# Altium integrated library TI Power Management Step-Up Regulator.IntLib: 226 symbols (part 6 of 11)
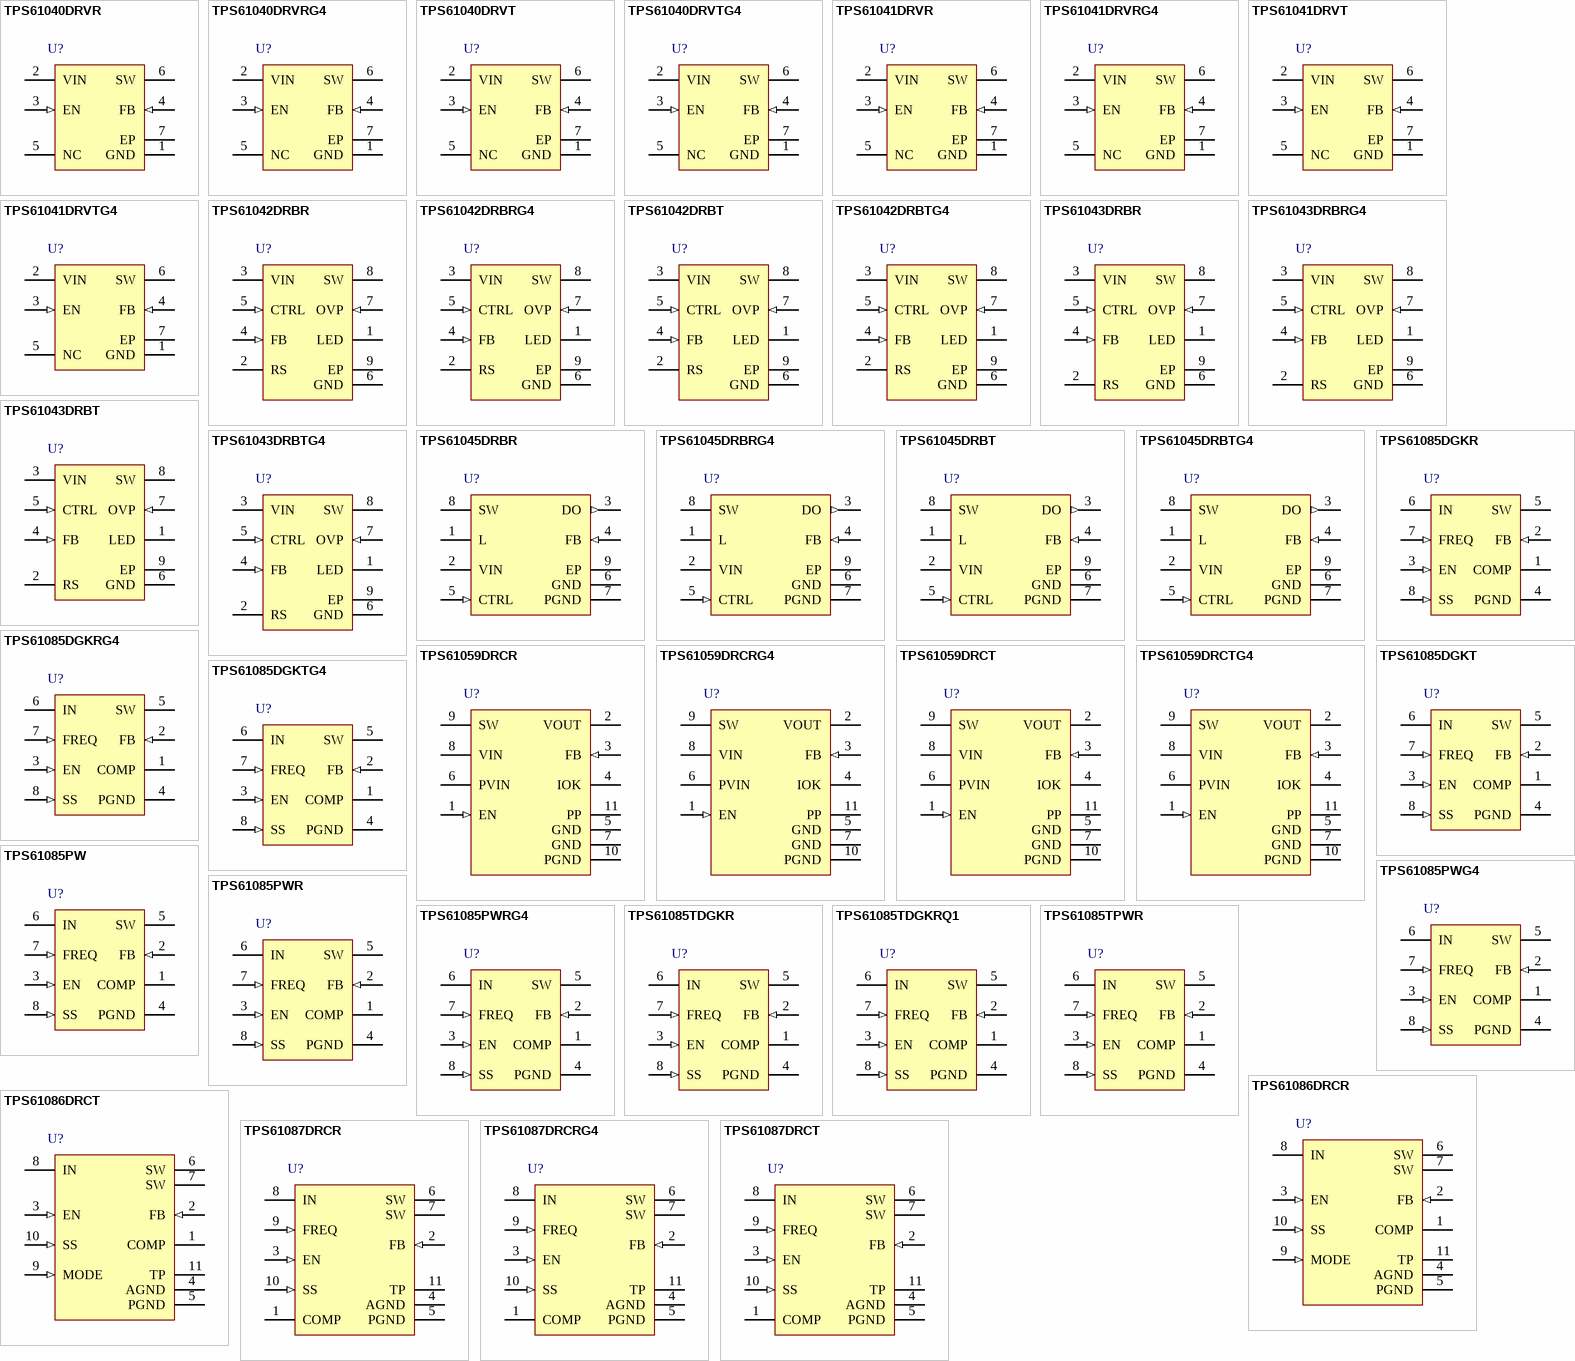
[diagram p11: symbols TPS61040DRVR to TPS61087DRCT]

## TPS61085TDGKR
designator U?
Voltage Converter with 2.3 to 6 V Input and 2.8 to 18.5 V Output, -40 to 105 degC, 8-Pin VSSOP (DGK), Green (RoHS & no Sb/Br); Manufacturer: Texas Instruments; PartNumber: TPS61085TDGKR; Regulated Outputs(#): 1; SubFamily: Step-Up Regulator; Switching Frequency(Typ)(kHz): 650; Vin(Max)(V): 6; Vin(Min)(V): 2.3; Vout(Max)(V): 18.5; Vout(Min)(V): 2.8; DatasheetVersion: SLVSA41A; PackageVersion: revE, May-2006; PackageReference: DGK8; PackageDescription: 8-Pin Thin Small Outline Package 3 x 3 mm Body ,0.65 mm Pitch; Supplier 1: Digi-Key; Supplier Part Number 1: TPS61085TDGKR-ND; Supplier 2: Newark; Supplier Part Number 2: 64R0759; Supplier 3: Mouser; Supplier Part Number 3: 595-TPS61085TDGKR; Eco-Plan: Green (RoHS & no Sb/Br); Mounting Technology: Surface Mount; Code_JEDEC: MO-187-AA; ComponentLink1Description: Datasheet; ComponentLink1URL: http://www.ti.com/general/docs/lit/getliterature.tsp?genericPartNumber=TPS61085T&fileType=pdf; ComponentLink2Description: Package Specification; ComponentLink2URL: http://www.ti.com/lit/ml/mpds028d/mpds028d.pdf
footprint DGK8_N (TSOP, 8-Leads, Body 3x3mm, Pitch 0.65mm, IPC Medium Density)
footprint DGK8_L (TSOP, 8-Leads, Body 3x3mm, Pitch 0.65mm, IPC High Density)
footprint DGK8_M (TSOP, 8-Leads, Body 3x3mm, Pitch 0.65mm, IPC Low Density)
pins: 1 COMP "Compensation pin", 2 FB (in) "Feedback pin", 3 EN (in) "Shutdown control input. Connect this pin to logic high level to enable the device", 4 PGND (power) "Power ground", 5 SW (power) "Switch pin", 6 IN (power) "Input supply pin", 7 FREQ (in) "Frequency select pin. The power switch operates at 650 kHz if FREQ is connected to GND and at 1.2 MHz if FREQ is connected to IN", 8 SS (in) "Soft-start control pin. Connect a capacitor to this pin if soft-start needed. Open = no soft-start"

## TPS61085TDGKRQ1
designator U?
Boost Voltage Converter with 2.3 to 6 V Input and 2.8 to 18.5 V Output, -40 to 105 degC, 8-Pin VSSOP (DGK), Green (RoHS & no Sb/Br); Manufacturer: Texas Instruments; PartNumber: TPS61085TDGKRQ1; Regulated Outputs(#): 1; SubFamily: Step-Up Regulator; Switching Frequency(Max)(kHz): 1500; Vin(Max)(V): 6; Vin(Min)(V): 2.3; Vout(Max)(V): 18.5; Vout(Min)(V): 2.8; DatasheetVersion: SLVSAI9; PackageVersion: revE, May-2006; PackageReference: DGK8; PackageDescription: 8-Pin Thin Small Outline Package 3 x 3 mm Body ,0.65 mm Pitch; Supplier 1: Digi-Key; Supplier Part Number 1: TPS61085TDGKRQ1-ND; Supplier 2: Newark; Supplier Part Number 2: 13T5952; Supplier 3: Mouser; Supplier Part Number 3: 595-TPS61085TDGKRQ1; Eco-Plan: Green (RoHS & no Sb/Br); Topology: Boost; Mounting Technology: Surface Mount; Code_JEDEC: MO-187-AA; ComponentLink1Description: Datasheet; ComponentLink1URL: http://www.ti.com/general/docs/lit/getliterature.tsp?genericPartNumber=TPS61085-Q1&fileType=pdf; ComponentLink2Description: Package Specification; ComponentLink2URL: http://www.ti.com/lit/ml/mpds028d/mpds028d.pdf
footprint DGK8_N (TSOP, 8-Leads, Body 3x3mm, Pitch 0.65mm, IPC Medium Density)
footprint DGK8_L (TSOP, 8-Leads, Body 3x3mm, Pitch 0.65mm, IPC High Density)
footprint DGK8_M (TSOP, 8-Leads, Body 3x3mm, Pitch 0.65mm, IPC Low Density)
pins: 1 COMP "Compensation pin", 2 FB (in) "Feedback pin", 3 EN (in) "Shutdown control input. Connect this pin to logic high level to enable the device", 4 PGND (power) "Power ground", 5 SW (power) "Switch pin", 6 IN (power) "Input supply pin", 7 FREQ (in) "Frequency select pin. The power switch operates at 650 kHz if FREQ is connected to GND and at 1.2 MHz if FREQ is connected to IN", 8 SS (in) "Soft-start control pin. Connect a capacitor to this pin if soft-start needed. Open = no soft-start"

## TPS61085TPWR
designator U?
Voltage Converter with 2.3 to 6 V Input and 2.8 to 18.5 V Output, -40 to 105 degC, 8-Pin TSSOP (PW), Green (RoHS & no Sb/Br); Manufacturer: Texas Instruments; PartNumber: TPS61085TPWR; Regulated Outputs(#): 1; SubFamily: Step-Up Regulator; Switching Frequency(Typ)(kHz): 650; Vin(Max)(V): 6; Vin(Min)(V): 2.3; Vout(Max)(V): 18.5; Vout(Min)(V): 2.8; DatasheetVersion: SLVSA41A; PackageVersion: revG, Feb-2011; PackageReference: PW8; PackageDescription: 8-Pin Plastic Thin Small Outline Package 3 x 4.4 mm Body ,0.65 mm Pitch; Supplier 1: Digi-Key; Supplier Part Number 1: 296-25728-2-ND; Supplier 2: Digi-Key; Supplier Part Number 2: 296-25728-1-ND; Supplier 3: Digi-Key; Supplier Part Number 3: 296-25728-6-ND; Supplier 4: Newark; Supplier Part Number 4: 64R0760; Supplier 5: Mouser; Supplier Part Number 5: 595-TPS61085TPWR; Eco-Plan: Green (RoHS & no Sb/Br); Mounting Technology: Surface Mount; Code_JEDEC: MO-153; ComponentLink1Description: Datasheet; ComponentLink1URL: http://www.ti.com/general/docs/lit/getliterature.tsp?genericPartNumber=TPS61085T&fileType=pdf; ComponentLink2Description: Package Specification; ComponentLink2URL: http://www.ti.com/litv/pdf/mtss001d
footprint PW8_N (TSOP, 8-Leads, Body 3x4.4mm, Pitch 0.65mm, IPC Medium Density)
footprint PW8_L (TSOP, 8-Leads, Body 3x4.4mm, Pitch 0.65mm, IPC High Density)
footprint PW8_M (TSOP, 8-Leads, Body 3x4.4mm, Pitch 0.65mm, IPC Low Density)
pins: 1 COMP "Compensation pin", 2 FB (in) "Feedback pin", 3 EN (in) "Shutdown control input. Connect this pin to logic high level to enable the device", 4 PGND (power) "Power ground", 5 SW (power) "Switch pin", 6 IN (power) "Input supply pin", 7 FREQ (in) "Frequency select pin. The power switch operates at 650 kHz if FREQ is connected to GND and at 1.2 MHz if FREQ is connected to IN", 8 SS (in) "Soft-start control pin. Connect a capacitor to this pin if soft-start needed. Open = no soft-start"

## TPS61086DRCR
designator U?
Boost Voltage Converter with 2.3 to 6 V Input and 2.8 to 18.5 V Output, -40 to 85 degC, 10-Pin SON (DRC), Green (RoHS & no Sb/Br); Manufacturer: Texas Instruments; PartNumber: TPS61086DRCR; Regulated Outputs(#): 1; SubFamily: Step-Up Regulator; Switching Frequency(Typ)(kHz): 1200; Vin(Max)(V): 6; Vin(Min)(V): 2.3; Vout(Max)(V): 18.5; Vout(Min)(V): 2.8; DatasheetVersion: SLVSA05; PackageVersion: revL, Sep-2011; PackageReference: DRC10-2400X1650TP; PackageDescription: 10-Pin Plastic Small Outline No-Lead, 3 x 3 x 1 mm Body, 0.5 mm Pitch, Exposed Pad; Supplier 1: Digi-Key; Supplier Part Number 1: TPS61086DRCR-ND; Supplier 2: Mouser; Supplier Part Number 2: 595-TPS61086DRCR; Eco-Plan: Green (RoHS & no Sb/Br); Topology: Boost; Mounting Technology: Surface Mount; ComponentLink1Description: Datasheet; ComponentLink1URL: http://www.ti.com/general/docs/lit/getliterature.tsp?genericPartNumber=TPS61086&fileType=pdf; ComponentLink2Description: Package Specification; ComponentLink2URL: http://www.ti.com/litv/pdf/mpds117k
footprint DRC10-2400X1650TP (SON, 10-Leads, Body 3x3mm, Pitch 0.5mm, Thermal Pad 2.4x1.65mm, TI Recommended)
pins: 1 COMP "Compensation pin", 2 FB (in) "Feedback pin", 3 EN (in) "Shutdown control input. Connect this pin to logic high level to enable the device", 4 AGND (power) "Analog ground", 5 PGND (power) "Power ground", 6 SW (power) "Switch pin", 7 SW (power) "Switch pin", 8 IN (power) "Input supply pin", 9 MODE (in) "Operating mode selection pin. MODE = 'high' for forced PWM operation. MODE = 'low' for PFM operation", 10 SS (in) "Soft-start control pin. Connect a capacitor to this pin if soft-start needed. Open = no soft-start", 11 TP (power) "Analog ground"

## TPS61086DRCT
designator U?
Boost Voltage Converter with 2.3 to 6 V Input and 2.8 to 18.5 V Output, -40 to 85 degC, 10-Pin SON (DRC), Green (RoHS & no Sb/Br); Manufacturer: Texas Instruments; PartNumber: TPS61086DRCT; Regulated Outputs(#): 1; SubFamily: Step-Up Regulator; Switching Frequency(Typ)(kHz): 1200; Vin(Max)(V): 6; Vin(Min)(V): 2.3; Vout(Max)(V): 18.5; Vout(Min)(V): 2.8; DatasheetVersion: SLVSA05; PackageVersion: revL, Sep-2011; PackageReference: DRC10-2400X1650TP; PackageDescription: 10-Pin Plastic Small Outline No-Lead, 3 x 3 x 1 mm Body, 0.5 mm Pitch, Exposed Pad; Supplier 1: Digi-Key; Supplier Part Number 1: 296-25123-2-ND; Supplier 2: Digi-Key; Supplier Part Number 2: 296-25123-1-ND; Supplier 3: Digi-Key; Supplier Part Number 3: 296-25123-6-ND; Supplier 4: Farnell; Supplier Part Number 4: 1762992; Supplier 5: Newark; Supplier Part Number 5: 26R5220; Supplier 6: Mouser; Supplier Part Number 6: 595-TPS61086DRCT; Eco-Plan: Green (RoHS & no Sb/Br); Topology: Boost; Mounting Technology: Surface Mount; ComponentLink1Description: Datasheet; ComponentLink1URL: http://www.ti.com/general/docs/lit/getliterature.tsp?genericPartNumber=TPS61086&fileType=pdf; ComponentLink2Description: Package Specification; ComponentLink2URL: http://www.ti.com/litv/pdf/mpds117k
footprint DRC10-2400X1650TP (SON, 10-Leads, Body 3x3mm, Pitch 0.5mm, Thermal Pad 2.4x1.65mm, TI Recommended)
pins: 1 COMP "Compensation pin", 2 FB (in) "Feedback pin", 3 EN (in) "Shutdown control input. Connect this pin to logic high level to enable the device", 4 AGND (power) "Analog ground", 5 PGND (power) "Power ground", 6 SW (power) "Switch pin", 7 SW (power) "Switch pin", 8 IN (power) "Input supply pin", 9 MODE (in) "Operating mode selection pin. MODE = 'high' for forced PWM operation. MODE = 'low' for PFM operation", 10 SS (in) "Soft-start control pin. Connect a capacitor to this pin if soft-start needed. Open = no soft-start", 11 TP (power) "Analog ground"

## TPS61087DRCR
designator U?
Boost Voltage Converter with 2.5 to 6 V Input and 3 to 18.5 V Output, -40 to 85 degC, 10-Pin SON (DRC), Green (RoHS & no Sb/Br); Manufacturer: Texas Instruments; PartNumber: TPS61087DRCR; Regulated Outputs(#): 1; SubFamily: Step-Up Regulator; Switching Frequency(Typ)(kHz): 650, 1200; Vin(Max)(V): 6; Vin(Min)(V): 2.5; Vout(Max)(V): 18.5; Vout(Min)(V): 3; DatasheetVersion: SLVS821B; PackageVersion: revL, Sep-2011; PackageReference: DRC10-2400X1650TP; PackageDescription: 10-Pin Plastic Small Outline No-Lead, 3 x 3 x 1 mm Body, 0.5 mm Pitch, Exposed Pad; Supplier 1: Digi-Key; Supplier Part Number 1: 296-27012-2-ND; Supplier 2: Digi-Key; Supplier Part Number 2: 296-27012-1-ND; Supplier 3: Digi-Key; Supplier Part Number 3: 296-27012-6-ND; Supplier 4: Newark; Supplier Part Number 4: 11N9843; Supplier 5: Mouser; Supplier Part Number 5: 595-TPS61087DRCR; Eco-Plan: Green (RoHS & no Sb/Br); Topology: Boost; Mounting Technology: Surface Mount; ComponentLink1Description: Datasheet; ComponentLink1URL: http://www.ti.com/general/docs/lit/getliterature.tsp?genericPartNumber=TPS61087&fileType=pdf; ComponentLink2Description: Package Specification; ComponentLink2URL: http://www.ti.com/litv/pdf/mpds117k
footprint DRC10-2400X1650TP (SON, 10-Leads, Body 3x3mm, Pitch 0.5mm, Thermal Pad 2.4x1.65mm, TI Recommended)
pins: 1 COMP "Compensation pin", 2 FB (in) "Feedback pin", 3 EN (in) "Shutdown control input. Connect this pin to logic high level to enable the device", 4 AGND (power) "Analog ground", 5 PGND (power) "Power ground", 6 SW (power) "Switch pin", 7 SW (power) "Switch pin", 8 IN (power) "Input supply pin", 9 FREQ (in) "Frequency select pin. The power switch operates at 650 kHz if FREQ is connected to GND and at 1.2 MHz if FREQ is connected to IN", 10 SS (in) "Soft-start control pin. Connect a capacitor to this pin if soft-start needed. Open = no soft-start", 11 TP (power) "Analog ground"

## TPS61087DRCRG4
designator U?
Boost Voltage Converter with 2.5 to 6 V Input and 3 to 18.5 V Output, -40 to 85 degC, 10-Pin SON (DRC), Green (RoHS & no Sb/Br); Manufacturer: Texas Instruments; PartNumber: TPS61087DRCRG4; Regulated Outputs(#): 1; SubFamily: Step-Up Regulator; Switching Frequency(Typ)(kHz): 650, 1200; Vin(Max)(V): 6; Vin(Min)(V): 2.5; Vout(Max)(V): 18.5; Vout(Min)(V): 3; DatasheetVersion: SLVS821B; PackageVersion: revL, Sep-2011; PackageReference: DRC10-2400X1650TP; PackageDescription: 10-Pin Plastic Small Outline No-Lead, 3 x 3 x 1 mm Body, 0.5 mm Pitch, Exposed Pad; Supplier 1: Digi-Key; Supplier Part Number 1: TPS61087DRCRG4-ND; Supplier 2: Newark; Supplier Part Number 2: 03P5225; Supplier 3: Mouser; Supplier Part Number 3: 595-TPS61087DRCRG4; Eco-Plan: Green (RoHS & no Sb/Br); Topology: Boost; Mounting Technology: Surface Mount; ComponentLink1Description: Datasheet; ComponentLink1URL: http://www.ti.com/general/docs/lit/getliterature.tsp?genericPartNumber=TPS61087&fileType=pdf; ComponentLink2Description: Package Specification; ComponentLink2URL: http://www.ti.com/litv/pdf/mpds117k
footprint DRC10-2400X1650TP (SON, 10-Leads, Body 3x3mm, Pitch 0.5mm, Thermal Pad 2.4x1.65mm, TI Recommended)
pins: 1 COMP "Compensation pin", 2 FB (in) "Feedback pin", 3 EN (in) "Shutdown control input. Connect this pin to logic high level to enable the device", 4 AGND (power) "Analog ground", 5 PGND (power) "Power ground", 6 SW (power) "Switch pin", 7 SW (power) "Switch pin", 8 IN (power) "Input supply pin", 9 FREQ (in) "Frequency select pin. The power switch operates at 650 kHz if FREQ is connected to GND and at 1.2 MHz if FREQ is connected to IN", 10 SS (in) "Soft-start control pin. Connect a capacitor to this pin if soft-start needed. Open = no soft-start", 11 TP (power) "Analog ground"

## TPS61087DRCT
designator U?
Boost Voltage Converter with 2.5 to 6 V Input and 3 to 18.5 V Output, -40 to 85 degC, 10-Pin SON (DRC), Green (RoHS & no Sb/Br); Manufacturer: Texas Instruments; PartNumber: TPS61087DRCT; Regulated Outputs(#): 1; SubFamily: Step-Up Regulator; Switching Frequency(Typ)(kHz): 650, 1200; Vin(Max)(V): 6; Vin(Min)(V): 2.5; Vout(Max)(V): 18.5; Vout(Min)(V): 3; DatasheetVersion: SLVS821B; PackageVersion: revL, Sep-2011; PackageReference: DRC10-2400X1650TP; PackageDescription: 10-Pin Plastic Small Outline No-Lead, 3 x 3 x 1 mm Body, 0.5 mm Pitch, Exposed Pad; Supplier 1: Digi-Key; Supplier Part Number 1: 296-23426-2-ND; Supplier 2: Digi-Key; Supplier Part Number 2: 296-23426-1-ND; Supplier 3: Digi-Key; Supplier Part Number 3: 296-23426-6-ND; Supplier 4: Farnell; Supplier Part Number 4: 1647915; Supplier 5: Newark; Supplier Part Number 5: 33P8376; Supplier 6: Newark; Supplier Part Number 6: 11N9844; Supplier 7: Mouser; Supplier Part Number 7: 595-TPS61087DRCT; Eco-Plan: Green (RoHS & no Sb/Br); Topology: Boost; Mounting Technology: Surface Mount; ComponentLink1Description: Datasheet; ComponentLink1URL: http://www.ti.com/general/docs/lit/getliterature.tsp?genericPartNumber=TPS61087&fileType=pdf; ComponentLink2Description: Package Specification; ComponentLink2URL: http://www.ti.com/litv/pdf/mpds117k
footprint DRC10-2400X1650TP (SON, 10-Leads, Body 3x3mm, Pitch 0.5mm, Thermal Pad 2.4x1.65mm, TI Recommended)
pins: 1 COMP "Compensation pin", 2 FB (in) "Feedback pin", 3 EN (in) "Shutdown control input. Connect this pin to logic high level to enable the device", 4 AGND (power) "Analog ground", 5 PGND (power) "Power ground", 6 SW (power) "Switch pin", 7 SW (power) "Switch pin", 8 IN (power) "Input supply pin", 9 FREQ (in) "Frequency select pin. The power switch operates at 650 kHz if FREQ is connected to GND and at 1.2 MHz if FREQ is connected to IN", 10 SS (in) "Soft-start control pin. Connect a capacitor to this pin if soft-start needed. Open = no soft-start", 11 TP (power) "Analog ground"

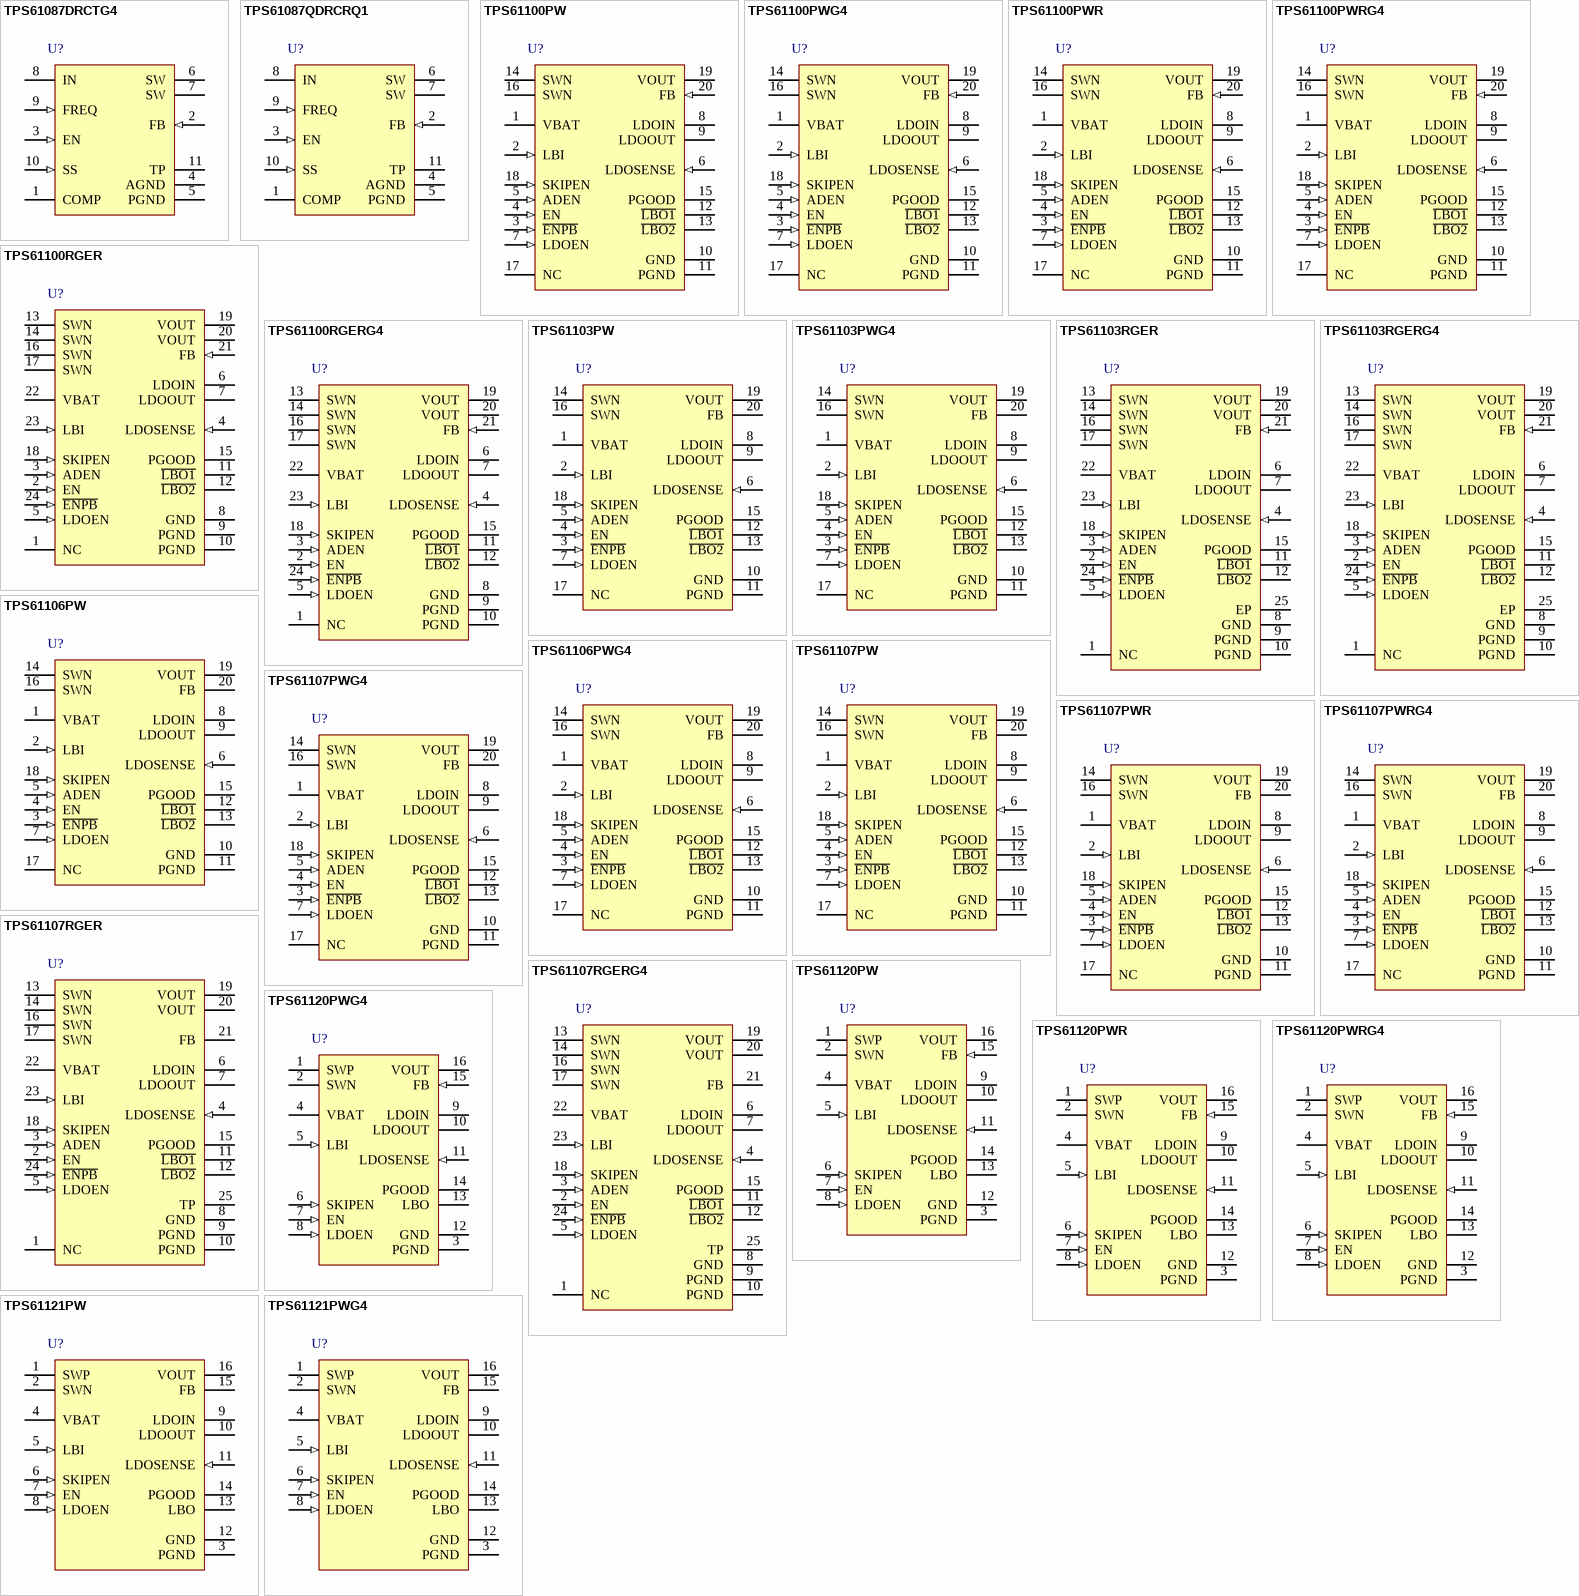
[diagram p3: symbols TPS61087DRCTG4 to TPS61121PWG4]

## TPS61087DRCTG4
designator U?
Boost Voltage Converter with 2.5 to 6 V Input and 3 to 18.5 V Output, -40 to 85 degC, 10-Pin SON (DRC), Green (RoHS & no Sb/Br); Manufacturer: Texas Instruments; PartNumber: TPS61087DRCTG4; Regulated Outputs(#): 1; SubFamily: Step-Up Regulator; Switching Frequency(Typ)(kHz): 650, 1200; Vin(Max)(V): 6; Vin(Min)(V): 2.5; Vout(Max)(V): 18.5; Vout(Min)(V): 3; DatasheetVersion: SLVS821B; PackageVersion: revL, Sep-2011; PackageReference: DRC10-2400X1650TP; PackageDescription: 10-Pin Plastic Small Outline No-Lead, 3 x 3 x 1 mm Body, 0.5 mm Pitch, Exposed Pad; Supplier 1: Digi-Key; Supplier Part Number 1: TPS61087DRCTG4-ND; Supplier 2: Newark; Supplier Part Number 2: 03P5226; Supplier 3: Mouser; Supplier Part Number 3: 595-TPS61087DRCTG4; Eco-Plan: Green (RoHS & no Sb/Br); Topology: Boost; Mounting Technology: Surface Mount; ComponentLink1Description: Datasheet; ComponentLink1URL: http://www.ti.com/general/docs/lit/getliterature.tsp?genericPartNumber=TPS61087&fileType=pdf; ComponentLink2Description: Package Specification; ComponentLink2URL: http://www.ti.com/litv/pdf/mpds117k
footprint DRC10-2400X1650TP (SON, 10-Leads, Body 3x3mm, Pitch 0.5mm, Thermal Pad 2.4x1.65mm, TI Recommended)
pins: 1 COMP "Compensation pin", 2 FB (in) "Feedback pin", 3 EN (in) "Shutdown control input. Connect this pin to logic high level to enable the device", 4 AGND (power) "Analog ground", 5 PGND (power) "Power ground", 6 SW (power) "Switch pin", 7 SW (power) "Switch pin", 8 IN (power) "Input supply pin", 9 FREQ (in) "Frequency select pin. The power switch operates at 650 kHz if FREQ is connected to GND and at 1.2 MHz if FREQ is connected to IN", 10 SS (in) "Soft-start control pin. Connect a capacitor to this pin if soft-start needed. Open = no soft-start", 11 TP (power) "Analog ground"

## TPS61087QDRCRQ1
designator U?
Boost Voltage Converter with 2.5 to 6 V Input and 3 to 18.5 V Output, -40 to 125 degC, 10-Pin SON (DRC), Green (RoHS & no Sb/Br); Manufacturer: Texas Instruments; PartNumber: TPS61087QDRCRQ1; Regulated Outputs(#): 1; SubFamily: Step-Up Regulator; Switching Frequency(Typ)(kHz): 650, 1200; Vin(Max)(V): 6; Vin(Min)(V): 2.5; Vout(Max)(V): 18.5; Vout(Min)(V): 3; DatasheetVersion: SLVSB50; PackageVersion: revL, Sep-2011; PackageReference: DRC10-2400X1650TP; PackageDescription: 10-Pin Plastic Small Outline No-Lead, 3 x 3 x 1 mm Body, 0.5 mm Pitch, Exposed Pad; Supplier 1: Digi-Key; Supplier Part Number 1: TPS61087QDRCRQ1-ND; Supplier 2: Newark; Supplier Part Number 2: 76T8139; Supplier 3: Mouser; Supplier Part Number 3: 595-TPS61087QDRCRQ1; Eco-Plan: Green (RoHS & no Sb/Br); Topology: Boost; Mounting Technology: Surface Mount; ComponentLink1Description: Datasheet; ComponentLink1URL: http://www.ti.com/general/docs/lit/getliterature.tsp?genericPartNumber=TPS61087-Q1&fileType=pdf; ComponentLink2Description: Package Specification; ComponentLink2URL: http://www.ti.com/litv/pdf/mpds117k
footprint DRC10-2400X1650TP (SON, 10-Leads, Body 3x3mm, Pitch 0.5mm, Thermal Pad 2.4x1.65mm, TI Recommended)
pins: 1 COMP "Compensation pin", 2 FB (in) "Feedback pin", 3 EN (in) "Shutdown control input. Connect this pin to logic high level to enable the device", 4 AGND (power) "Analog ground", 5 PGND (power) "Power ground", 6 SW (power) "Switch pin", 7 SW (power) "Switch pin", 8 IN (power) "Input supply pin", 9 FREQ (in) "Frequency select pin. The power switch operates at 650 kHz if FREQ is connected to GND and at 1.2 MHz if FREQ is connected to IN", 10 SS (in) "Soft-start control pin. Connect a capacitor to this pin if soft-start needed. Open = no soft-start", 11 TP (power) "Analog ground"

## TPS61100PW
designator U?
Boost Voltage Converter with 0.8 to 3.3 V Input and 1.5 to 5.5 V Output, -40 to 85 degC, 5-Pin SOT-23 (DBV), Green (RoHS & no Sb/Br); Manufacturer: Texas Instruments; PartNumber: TPS61100PW; Regulated Outputs(#): 2; SubFamily: Step-Up Regulator; Switching Frequency(Max)(kHz): 800; Synchronous Rectification: TRUE; Vin(Max)(V): 3.3; Vin(Min)(V): 0.8; Vout(Max)(V): 5.5; Vout(Min)(V): 1.5; Vout2 Adj(Max)(V): 3.6; Vout2 Adj(Min)(V): 0.9; DatasheetVersion: SLVS411B; PackageVersion: revG, Feb-2011; PackageReference: PW20; PackageDescription: 20-Pin Plastic Thin Small Outline Package 6.5 x 4.4 mm Body ,0.65 mm Pitch; Supplier 1: Digi-Key; Supplier Part Number 1: 296-13515-5-ND; Supplier 2: Newark; Supplier Part Number 2: 77C0675; Supplier 3: Mouser; Supplier Part Number 3: 595-TPS61100PW; Eco-Plan: Green (RoHS & no Sb/Br); Topology: Boost; Mounting Technology: Surface Mount; Code_JEDEC: MO-153; ComponentLink1Description: Datasheet; ComponentLink1URL: http://www.ti.com/general/docs/lit/getliterature.tsp?genericPartNumber=TPS61100&fileType=pdf; ComponentLink2Description: Package Specification; ComponentLink2URL: http://www.ti.com.cn/cn/lit/ml/mpds362/mpds362.pdf
footprint PW20_N (TSOP, 20-Leads, Body 6.5x4.4mm, Pitch 0.65mm, IPC Medium Density)
footprint PW20_L (TSOP, 20-Leads, Body 6.5x4.4mm, Pitch 0.65mm, IPC High Density)
footprint PW20_M (TSOP, 20-Leads, Body 6.5x4.4mm, Pitch 0.65mm, IPC Low Density)
pins: 1 VBAT (power) "Supply pin", 2 LBI (in) "Low battery comparator input (comparator enabled with EN)", 3 ~{ENPB} (in) "Boost-enable input (pushbutton). (0/GND enabled. 1/VBAT disabled)", 4 EN (in) "Boost-enable input. (1/VBAT enabled, 0/GND disabled)", 5 ADEN (in) "Auto discharge enable (1/VBAT enabled, 0/GND disabled)", 6 LDOSENSE (in) "LDO feedback for voltage adjustment, must be connected to LDOOUT at fixed output voltage versions", 7 LDOEN (in) "LDO-enable input (1/VBAT enabled, 0/GND disabled)", 8 LDOIN (power) "LDO input", 9 LDOOUT (power) "LDO output", 10 GND (power) "Control/logic ground", 11 PGND (power) "Power ground", 12 ~{LBO1} (hiz) "Low battery comparator output 1 (open drain)", 13 ~{LBO2} (hiz) "Low battery comparator output 2 (open drain)", 14 SWN (power) "Boost switch input", 15 PGOOD (hiz) "Boost output power good (1 : good, 0 : failure) (open drain)", 16 SWN (power) "Boost switch input", 17 NC "No connection", 18 SKIPEN (in) "Enable/disable Power save mode (1: VBAT enabled, 0: GND disabled)", 19 VOUT (power) "Boost output", 20 FB (in) "Boost-voltage feedback of adjustable versions"

## TPS61100PWG4
designator U?
Boost Voltage Converter with 0.8 to 3.3 V Input and 1.5 to 5.5 V Output, -40 to 85 degC, 20-Pin TSSOP (PW), Green (RoHS & no Sb/Br); Manufacturer: Texas Instruments; PartNumber: TPS61100PWG4; Regulated Outputs(#): 2; SubFamily: Step-Up Regulator; Switching Frequency(Max)(kHz): 800; Synchronous Rectification: TRUE; Vin(Max)(V): 3.3; Vin(Min)(V): 0.8; Vout(Max)(V): 5.5; Vout(Min)(V): 1.5; Vout2 Adj(Max)(V): 3.6; Vout2 Adj(Min)(V): 0.9; DatasheetVersion: SLVS411B; PackageVersion: revG, Feb-2011; PackageReference: PW20; PackageDescription: 20-Pin Plastic Thin Small Outline Package 6.5 x 4.4 mm Body ,0.65 mm Pitch; Supplier 1: Digi-Key; Supplier Part Number 1: TPS61100PWG4-ND; Supplier 2: Farnell; Supplier Part Number 2: 1214436; Supplier 3: Newark; Supplier Part Number 3: 66K4533; Supplier 4: Mouser; Supplier Part Number 4: 595-TPS61100PWG4; Eco-Plan: Green (RoHS & no Sb/Br); Topology: Boost; Mounting Technology: Surface Mount; Code_JEDEC: MO-153; ComponentLink1Description: Datasheet; ComponentLink1URL: http://www.ti.com/general/docs/lit/getliterature.tsp?genericPartNumber=TPS61100&fileType=pdf; ComponentLink2Description: Package Specification; ComponentLink2URL: http://www.ti.com.cn/cn/lit/ml/mpds362/mpds362.pdf
footprint PW20_N (TSOP, 20-Leads, Body 6.5x4.4mm, Pitch 0.65mm, IPC Medium Density)
footprint PW20_L (TSOP, 20-Leads, Body 6.5x4.4mm, Pitch 0.65mm, IPC High Density)
footprint PW20_M (TSOP, 20-Leads, Body 6.5x4.4mm, Pitch 0.65mm, IPC Low Density)
pins: 1 VBAT (power) "Supply pin", 2 LBI (in) "Low battery comparator input (comparator enabled with EN)", 3 ~{ENPB} (in) "Boost-enable input (pushbutton). (0/GND enabled. 1/VBAT disabled)", 4 EN (in) "Boost-enable input. (1/VBAT enabled, 0/GND disabled)", 5 ADEN (in) "Auto discharge enable (1/VBAT enabled, 0/GND disabled)", 6 LDOSENSE (in) "LDO feedback for voltage adjustment, must be connected to LDOOUT at fixed output voltage versions", 7 LDOEN (in) "LDO-enable input (1/VBAT enabled, 0/GND disabled)", 8 LDOIN (power) "LDO input", 9 LDOOUT (power) "LDO output", 10 GND (power) "Control/logic ground", 11 PGND (power) "Power ground", 12 ~{LBO1} (hiz) "Low battery comparator output 1 (open drain)", 13 ~{LBO2} (hiz) "Low battery comparator output 2 (open drain)", 14 SWN (power) "Boost switch input", 15 PGOOD (hiz) "Boost output power good (1 : good, 0 : failure) (open drain)", 16 SWN (power) "Boost switch input", 17 NC "No connection", 18 SKIPEN (in) "Enable/disable Power save mode (1: VBAT enabled, 0: GND disabled)", 19 VOUT (power) "Boost output", 20 FB (in) "Boost-voltage feedback of adjustable versions"

## TPS61100PWR
designator U?
Boost Voltage Converter with 0.8 to 3.3 V Input and 1.5 to 5.5 V Output, -40 to 85 degC, 20-Pin TSSOP (PW), Green (RoHS & no Sb/Br); Manufacturer: Texas Instruments; PartNumber: TPS61100PWR; Regulated Outputs(#): 2; SubFamily: Step-Up Regulator; Switching Frequency(Max)(kHz): 800; Synchronous Rectification: TRUE; Vin(Max)(V): 3.3; Vin(Min)(V): 0.8; Vout(Max)(V): 5.5; Vout(Min)(V): 1.5; Vout2 Adj(Max)(V): 3.6; Vout2 Adj(Min)(V): 0.9; DatasheetVersion: SLVS411B; PackageVersion: revG, Feb-2011; PackageReference: PW20; PackageDescription: 20-Pin Plastic Thin Small Outline Package 6.5 x 4.4 mm Body ,0.65 mm Pitch; Supplier 1: Digi-Key; Supplier Part Number 1: TPS61100PWR-ND; Supplier 2: Newark; Supplier Part Number 2: 77C0676; Supplier 3: Mouser; Supplier Part Number 3: 595-TPS61100PWR; Eco-Plan: Green (RoHS & no Sb/Br); Topology: Boost; Mounting Technology: Surface Mount; Code_JEDEC: MO-153; ComponentLink1Description: Datasheet; ComponentLink1URL: http://www.ti.com/general/docs/lit/getliterature.tsp?genericPartNumber=TPS61100&fileType=pdf; ComponentLink2Description: Package Specification; ComponentLink2URL: http://www.ti.com.cn/cn/lit/ml/mpds362/mpds362.pdf
footprint PW20_N (TSOP, 20-Leads, Body 6.5x4.4mm, Pitch 0.65mm, IPC Medium Density)
footprint PW20_L (TSOP, 20-Leads, Body 6.5x4.4mm, Pitch 0.65mm, IPC High Density)
footprint PW20_M (TSOP, 20-Leads, Body 6.5x4.4mm, Pitch 0.65mm, IPC Low Density)
pins: 1 VBAT (power) "Supply pin", 2 LBI (in) "Low battery comparator input (comparator enabled with EN)", 3 ~{ENPB} (in) "Boost-enable input (pushbutton). (0/GND enabled. 1/VBAT disabled)", 4 EN (in) "Boost-enable input. (1/VBAT enabled, 0/GND disabled)", 5 ADEN (in) "Auto discharge enable (1/VBAT enabled, 0/GND disabled)", 6 LDOSENSE (in) "LDO feedback for voltage adjustment, must be connected to LDOOUT at fixed output voltage versions", 7 LDOEN (in) "LDO-enable input (1/VBAT enabled, 0/GND disabled)", 8 LDOIN (power) "LDO input", 9 LDOOUT (power) "LDO output", 10 GND (power) "Control/logic ground", 11 PGND (power) "Power ground", 12 ~{LBO1} (hiz) "Low battery comparator output 1 (open drain)", 13 ~{LBO2} (hiz) "Low battery comparator output 2 (open drain)", 14 SWN (power) "Boost switch input", 15 PGOOD (hiz) "Boost output power good (1 : good, 0 : failure) (open drain)", 16 SWN (power) "Boost switch input", 17 NC "No connection", 18 SKIPEN (in) "Enable/disable Power save mode (1: VBAT enabled, 0: GND disabled)", 19 VOUT (power) "Boost output", 20 FB (in) "Boost-voltage feedback of adjustable versions"

## TPS61100PWRG4
designator U?
Boost Voltage Converter with 0.8 to 3.3 V Input and 1.5 to 5.5 V Output, -40 to 85 degC, 20-Pin TSSOP (PW), Green (RoHS & no Sb/Br); Manufacturer: Texas Instruments; PartNumber: TPS61100PWRG4; Regulated Outputs(#): 2; SubFamily: Step-Up Regulator; Switching Frequency(Max)(kHz): 800; Synchronous Rectification: TRUE; Vin(Max)(V): 3.3; Vin(Min)(V): 0.8; Vout(Max)(V): 5.5; Vout(Min)(V): 1.5; Vout2 Adj(Max)(V): 3.6; Vout2 Adj(Min)(V): 0.9; DatasheetVersion: SLVS411B; PackageVersion: revG, Feb-2011; PackageReference: PW20; PackageDescription: 20-Pin Plastic Thin Small Outline Package 6.5 x 4.4 mm Body ,0.65 mm Pitch; Supplier 1: Digi-Key; Supplier Part Number 1: TPS61100PWRG4-ND; Supplier 2: Newark; Supplier Part Number 2: 73K9608; Supplier 3: Mouser; Supplier Part Number 3: 595-TPS61100PWRG4; Eco-Plan: Green (RoHS & no Sb/Br); Topology: Boost; Mounting Technology: Surface Mount; Code_JEDEC: MO-153; ComponentLink1Description: Datasheet; ComponentLink1URL: http://www.ti.com/general/docs/lit/getliterature.tsp?genericPartNumber=TPS61100&fileType=pdf; ComponentLink2Description: Package Specification; ComponentLink2URL: http://www.ti.com.cn/cn/lit/ml/mpds362/mpds362.pdf
footprint PW20_N (TSOP, 20-Leads, Body 6.5x4.4mm, Pitch 0.65mm, IPC Medium Density)
footprint PW20_L (TSOP, 20-Leads, Body 6.5x4.4mm, Pitch 0.65mm, IPC High Density)
footprint PW20_M (TSOP, 20-Leads, Body 6.5x4.4mm, Pitch 0.65mm, IPC Low Density)
pins: 1 VBAT (power) "Supply pin", 2 LBI (in) "Low battery comparator input (comparator enabled with EN)", 3 ~{ENPB} (in) "Boost-enable input (pushbutton). (0/GND enabled. 1/VBAT disabled)", 4 EN (in) "Boost-enable input. (1/VBAT enabled, 0/GND disabled)", 5 ADEN (in) "Auto discharge enable (1/VBAT enabled, 0/GND disabled)", 6 LDOSENSE (in) "LDO feedback for voltage adjustment, must be connected to LDOOUT at fixed output voltage versions", 7 LDOEN (in) "LDO-enable input (1/VBAT enabled, 0/GND disabled)", 8 LDOIN (power) "LDO input", 9 LDOOUT (power) "LDO output", 10 GND (power) "Control/logic ground", 11 PGND (power) "Power ground", 12 ~{LBO1} (hiz) "Low battery comparator output 1 (open drain)", 13 ~{LBO2} (hiz) "Low battery comparator output 2 (open drain)", 14 SWN (power) "Boost switch input", 15 PGOOD (hiz) "Boost output power good (1 : good, 0 : failure) (open drain)", 16 SWN (power) "Boost switch input", 17 NC "No connection", 18 SKIPEN (in) "Enable/disable Power save mode (1: VBAT enabled, 0: GND disabled)", 19 VOUT (power) "Boost output", 20 FB (in) "Boost-voltage feedback of adjustable versions"

## TPS61100RGER
designator U?
Boost Voltage Converter with 0.8 to 3.3 V Input and 1.5 to 5.5 V Output, -40 to 85 degC, 24-Pin VQFN (RGE), Green (RoHS & no Sb/Br); Manufacturer: Texas Instruments; PartNumber: TPS61100RGER; Regulated Outputs(#): 2; SubFamily: Step-Up Regulator; Switching Frequency(Max)(kHz): 800; Synchronous Rectification: TRUE; Vin(Max)(V): 3.3; Vin(Min)(V): 0.8; Vout(Max)(V): 5.5; Vout(Min)(V): 1.5; Vout2 Adj(Max)(V): 3.6; Vout2 Adj(Min)(V): 0.9; DatasheetVersion: SLVS411B; PackageVersion: revG, Jul-2011; PackageReference: RGE24-2450X2450TP; PackageDescription: 24-Pin Plastic Quad Flatpack No-Lead, 4 x 4 mm Body, 0.5 mm Pitch; Supplier 1: Digi-Key; Supplier Part Number 1: 296-15141-2-ND; Supplier 2: Digi-Key; Supplier Part Number 2: 296-15141-1-ND; Supplier 3: Digi-Key; Supplier Part Number 3: 296-15141-6-ND; Supplier 4: Farnell; Supplier Part Number 4: 1544025; Supplier 5: Newark; Supplier Part Number 5: 95M0066; Supplier 6: Newark; Supplier Part Number 6: 02E7221; Supplier 7: Mouser; Supplier Part Number 7: 595-TPS61100RGER; Eco-Plan: Green (RoHS & no Sb/Br); Topology: Boost; Mounting Technology: Surface Mount; Code_JEDEC: MO-220; ComponentLink1Description: Datasheet; ComponentLink1URL: http://www.ti.com/general/docs/lit/getliterature.tsp?genericPartNumber=TPS61100&fileType=pdf; ComponentLink2Description: Package Specification; ComponentLink2URL: http://www.ti.com/litv/pdf/mpqf124f
footprint RGE24-2450X2450TP (QFN, 24-Leads, Body 4x4mm, Pitch 0.5mm, Thermal Pad 2.45x2.45mm, TI Recommended)
pins: 1 NC "No connection", 2 EN (in) "Boost-enable input. (1/VBAT enabled, 0/GND disabled)", 3 ADEN (in) "Auto discharge enable (1/VBAT enabled, 0/GND disabled)", 4 LDOSENSE (in) "LDO feedback for voltage adjustment, must be connected to LDOOUT at fixed output voltage versions", 5 LDOEN (in) "LDO-enable input (1/VBAT enabled, 0/GND disabled)", 6 LDOIN (power) "LDO input", 7 LDOOUT (power) "LDO output", 8 GND (power) "Control/logic ground", 9 PGND (power) "Power ground", 10 PGND (power) "Power ground", 11 ~{LBO1} (hiz) "Low battery comparator output 1 (open drain)", 12 ~{LBO2} (hiz) "Low battery comparator output 2 (open drain)", 13 SWN (power) "Boost switch input", 14 SWN (power) "Boost switch input", 15 PGOOD (hiz) "Boost output power good (1 : good, 0 : failure) (open drain)", 16 SWN (power) "Boost switch input", 17 SWN (power) "Boost switch input", 18 SKIPEN (in) "Enable/disable Power save mode (1: VBAT enabled, 0: GND disabled)", 19 VOUT (power) "Boost output", 20 VOUT (power) "Boost output", 21 FB (in) "Boost-voltage feedback of adjustable versions", 22 VBAT (power) "Supply pin", 23 LBI (in) "Low battery comparator input (comparator enabled with EN)", 24 ~{ENPB} (in) "Boost-enable input (pushbutton). (0/GND enabled. 1/VBAT disabled)"

## TPS61100RGERG4
designator U?
Boost Voltage Converter with 0.8 to 3.3 V Input and 1.5 to 5.5 V Output, -40 to 85 degC, 24-Pin VQFN (RGE), Green (RoHS & no Sb/Br); Manufacturer: Texas Instruments; PartNumber: TPS61100RGERG4; Regulated Outputs(#): 2; SubFamily: Step-Up Regulator; Switching Frequency(Max)(kHz): 800; Synchronous Rectification: TRUE; Vin(Max)(V): 3.3; Vin(Min)(V): 0.8; Vout(Max)(V): 5.5; Vout(Min)(V): 1.5; Vout2 Adj(Max)(V): 3.6; Vout2 Adj(Min)(V): 0.9; DatasheetVersion: SLVS411B; PackageVersion: revG, Jul-2011; PackageReference: RGE24-2450X2450TP; PackageDescription: 24-Pin Plastic Quad Flatpack No-Lead, 4 x 4 mm Body, 0.5 mm Pitch; Supplier 1: Digi-Key; Supplier Part Number 1: TPS61100RGERG4-ND; Supplier 2: Newark; Supplier Part Number 2: 54K1718; Supplier 3: Mouser; Supplier Part Number 3: 595-TPS61100RGERG4; Eco-Plan: Green (RoHS & no Sb/Br); Topology: Boost; Mounting Technology: Surface Mount; Code_JEDEC: MO-220; ComponentLink1Description: Datasheet; ComponentLink1URL: http://www.ti.com/general/docs/lit/getliterature.tsp?genericPartNumber=TPS61100&fileType=pdf; ComponentLink2Description: Package Specification; ComponentLink2URL: http://www.ti.com/litv/pdf/mpqf124f
footprint RGE24-2450X2450TP (QFN, 24-Leads, Body 4x4mm, Pitch 0.5mm, Thermal Pad 2.45x2.45mm, TI Recommended)
pins: 1 NC "No connection", 2 EN (in) "Boost-enable input. (1/VBAT enabled, 0/GND disabled)", 3 ADEN (in) "Auto discharge enable (1/VBAT enabled, 0/GND disabled)", 4 LDOSENSE (in) "LDO feedback for voltage adjustment, must be connected to LDOOUT at fixed output voltage versions", 5 LDOEN (in) "LDO-enable input (1/VBAT enabled, 0/GND disabled)", 6 LDOIN (power) "LDO input", 7 LDOOUT (power) "LDO output", 8 GND (power) "Control/logic ground", 9 PGND (power) "Power ground", 10 PGND (power) "Power ground", 11 ~{LBO1} (hiz) "Low battery comparator output 1 (open drain)", 12 ~{LBO2} (hiz) "Low battery comparator output 2 (open drain)", 13 SWN (power) "Boost switch input", 14 SWN (power) "Boost switch input", 15 PGOOD (hiz) "Boost output power good (1 : good, 0 : failure) (open drain)", 16 SWN (power) "Boost switch input", 17 SWN (power) "Boost switch input", 18 SKIPEN (in) "Enable/disable Power save mode (1: VBAT enabled, 0: GND disabled)", 19 VOUT (power) "Boost output", 20 VOUT (power) "Boost output", 21 FB (in) "Boost-voltage feedback of adjustable versions", 22 VBAT (power) "Supply pin", 23 LBI (in) "Low battery comparator input (comparator enabled with EN)", 24 ~{ENPB} (in) "Boost-enable input (pushbutton). (0/GND enabled. 1/VBAT disabled)"

## TPS61103PW
designator U?
Boost Voltage Converter with 0.8 to 3.3 V Input, -40 to 85 degC, 20-Pin TSSOP (PW), Green (RoHS & no Sb/Br); Manufacturer: Texas Instruments; PartNumber: TPS61103PW; Preset Vout(V): 3.3; Regulated Outputs(#): 2; SubFamily: Step-Up Regulator; Switching Frequency(Max)(kHz): 800; Synchronous Rectification: TRUE; Vin(Min)(V): 0.8; Vout2 Adj(Max)(V): 3.6; Vout2 Adj(Min)(V): 0.9; DatasheetVersion: SLVS411B; PackageVersion: revG, Feb-2011; PackageReference: PW20; PackageDescription: 20-Pin Plastic Thin Small Outline Package 6.5 x 4.4 mm Body ,0.65 mm Pitch; Supplier 1: Digi-Key; Supplier Part Number 1: 296-13516-5-ND; Supplier 2: Newark; Supplier Part Number 2: 77C0677; Supplier 3: Mouser; Supplier Part Number 3: 595-TPS61103PW; Eco-Plan: Green (RoHS & no Sb/Br); Topology: Boost; Vin(Max)(V): 3.3; Mounting Technology: Surface Mount; Code_JEDEC: MO-153; ComponentLink1Description: Datasheet; ComponentLink1URL: http://www.ti.com/general/docs/lit/getliterature.tsp?genericPartNumber=TPS61103&fileType=pdf; ComponentLink2Description: Package Specification; ComponentLink2URL: http://www.ti.com.cn/cn/lit/ml/mpds362/mpds362.pdf
footprint PW20_N (TSOP, 20-Leads, Body 6.5x4.4mm, Pitch 0.65mm, IPC Medium Density)
footprint PW20_L (TSOP, 20-Leads, Body 6.5x4.4mm, Pitch 0.65mm, IPC High Density)
footprint PW20_M (TSOP, 20-Leads, Body 6.5x4.4mm, Pitch 0.65mm, IPC Low Density)
pins: 1 VBAT (power) "Supply pin", 2 LBI (in) "Low battery comparator input (comparator enabled with EN)", 3 ~{ENPB} (in) "Boost-enable input (pushbutton). (0/GND enabled. 1/VBAT disabled)", 4 EN (in) "Boost-enable input. (1/VBAT enabled, 0/GND disabled)", 5 ADEN (in) "Auto discharge enable (1/VBAT enabled, 0/GND disabled)", 6 LDOSENSE (in) "LDO feedback for voltage adjustment, must be connected to LDOOUT at fixed output voltage versions", 7 LDOEN (in) "LDO-enable input (1/VBAT enabled, 0/GND disabled)", 8 LDOIN (power) "LDO input", 9 LDOOUT (power) "LDO output", 10 GND (power) "Control/logic ground", 11 PGND (power) "Power ground", 12 ~{LBO1} (hiz) "Low battery comparator output 1 (open drain)", 13 ~{LBO2} (hiz) "Low battery comparator output 2 (open drain)", 14 SWN (power) "Boost switch input", 15 PGOOD (hiz) "Boost output power good (1 : good, 0 : failure) (open drain)", 16 SWN (power) "Boost switch input", 17 NC "No connection", 18 SKIPEN (in) "Enable/disable Power save mode (1: VBAT enabled, 0: GND disabled)", 19 VOUT (power) "Boost output", 20 FB "Boost-voltage feedback of adjustable versions"

## TPS61103PWG4
designator U?
Boost Voltage Converter with 0.8 to 3.3 V Input, -40 to 85 degC, 20-Pin TSSOP (PW), Green (RoHS & no Sb/Br); Manufacturer: Texas Instruments; PartNumber: TPS61103PWG4; Preset Vout(V): 3.3; Regulated Outputs(#): 2; SubFamily: Step-Up Regulator; Switching Frequency(Max)(kHz): 800; Synchronous Rectification: TRUE; Vin(Min)(V): 0.8; Vout2 Adj(Max)(V): 3.6; Vout2 Adj(Min)(V): 0.9; DatasheetVersion: SLVS411B; PackageVersion: revG, Feb-2011; PackageReference: PW20; PackageDescription: 20-Pin Plastic Thin Small Outline Package 6.5 x 4.4 mm Body ,0.65 mm Pitch; Supplier 1: Digi-Key; Supplier Part Number 1: TPS61103PWG4-ND; Supplier 2: Newark; Supplier Part Number 2: 70K5752; Supplier 3: Mouser; Supplier Part Number 3: 595-TPS61103PWG4; Eco-Plan: Green (RoHS & no Sb/Br); Topology: Boost; Vin(Max)(V): 3.3; Mounting Technology: Surface Mount; Code_JEDEC: MO-153; ComponentLink1Description: Datasheet; ComponentLink1URL: http://www.ti.com/general/docs/lit/getliterature.tsp?genericPartNumber=TPS61103&fileType=pdf; ComponentLink2Description: Package Specification; ComponentLink2URL: http://www.ti.com.cn/cn/lit/ml/mpds362/mpds362.pdf
footprint PW20_N (TSOP, 20-Leads, Body 6.5x4.4mm, Pitch 0.65mm, IPC Medium Density)
footprint PW20_L (TSOP, 20-Leads, Body 6.5x4.4mm, Pitch 0.65mm, IPC High Density)
footprint PW20_M (TSOP, 20-Leads, Body 6.5x4.4mm, Pitch 0.65mm, IPC Low Density)
pins: 1 VBAT (power) "Supply pin", 2 LBI (in) "Low battery comparator input (comparator enabled with EN)", 3 ~{ENPB} (in) "Boost-enable input (pushbutton). (0/GND enabled. 1/VBAT disabled)", 4 EN (in) "Boost-enable input. (1/VBAT enabled, 0/GND disabled)", 5 ADEN (in) "Auto discharge enable (1/VBAT enabled, 0/GND disabled)", 6 LDOSENSE (in) "LDO feedback for voltage adjustment, must be connected to LDOOUT at fixed output voltage versions", 7 LDOEN (in) "LDO-enable input (1/VBAT enabled, 0/GND disabled)", 8 LDOIN (power) "LDO input", 9 LDOOUT (power) "LDO output", 10 GND (power) "Control/logic ground", 11 PGND (power) "Power ground", 12 ~{LBO1} (hiz) "Low battery comparator output 1 (open drain)", 13 ~{LBO2} (hiz) "Low battery comparator output 2 (open drain)", 14 SWN (power) "Boost switch input", 15 PGOOD (hiz) "Boost output power good (1 : good, 0 : failure) (open drain)", 16 SWN (power) "Boost switch input", 17 NC "No connection", 18 SKIPEN (in) "Enable/disable Power save mode (1: VBAT enabled, 0: GND disabled)", 19 VOUT (power) "Boost output", 20 FB "Boost-voltage feedback of adjustable versions"

## TPS61103RGER
designator U?
Boost Voltage Converter with 0.8 to 3.3 V Input, -40 to 85 degC, 24-Pin VQFN (RGE), Green (RoHS & no Sb/Br); Manufacturer: Texas Instruments; PartNumber: TPS61103RGER; Preset Vout(V): 3.3; Regulated Outputs(#): 2; SubFamily: Step-Up Regulator; Switching Frequency(Max)(kHz): 800; Synchronous Rectification: TRUE; Vin(Min)(V): 0.8; Vout2 Adj(Max)(V): 3.6; Vout2 Adj(Min)(V): 0.9; DatasheetVersion: SLVS411B; PackageVersion: revG, Jul-2011; PackageReference: RGE24-2450X2450TP; PackageDescription: 24-Pin Plastic Quad Flatpack No-Lead, 4 x 4 mm Body, 0.5 mm Pitch; Supplier 1: Digi-Key; Supplier Part Number 1: 296-15142-2-ND; Supplier 2: Digi-Key; Supplier Part Number 2: 296-15142-1-ND; Supplier 3: Digi-Key; Supplier Part Number 3: 296-15142-6-ND; Supplier 4: Newark; Supplier Part Number 4: 02E7222; Supplier 5: Mouser; Supplier Part Number 5: 595-TPS61103RGER; Eco-Plan: Green (RoHS & no Sb/Br); Topology: Boost; Vin(Max)(V): 3.3; Mounting Technology: Surface Mount; Code_JEDEC: MO-220; ComponentLink1Description: Datasheet; ComponentLink1URL: http://www.ti.com/general/docs/lit/getliterature.tsp?genericPartNumber=TPS61103&fileType=pdf; ComponentLink2Description: Package Specification; ComponentLink2URL: http://www.ti.com/litv/pdf/mpqf124f
footprint RGE24-2450X2450TP (QFN, 24-Leads, Body 4x4mm, Pitch 0.5mm, Thermal Pad 2.45x2.45mm, TI Recommended)
pins: 1 NC "No connection", 2 EN (in) "Boost-enable input. (1/VBAT enabled, 0/GND disabled)", 3 ADEN (in) "Boost-enable input (pushbutton). (0/GND enabled. 1/VBAT disabled)", 4 LDOSENSE (in) "LDO feedback for voltage adjustment, must be connected to LDOOUT at fixed output voltage versions", 5 LDOEN (in) "LDO-enable input (1/VBAT enabled, 0/GND disabled)", 6 LDOIN (power) "LDO input", 7 LDOOUT (power) "LDO output", 8 GND (power) "Control/logic ground", 9 PGND (power) "Power ground", 10 PGND (power) "Power ground", 11 ~{LBO1} (hiz) "Low battery comparator output 1 (open drain)", 12 ~{LBO2} (hiz) "Low battery comparator output 2 (open drain)", 13 SWN (power) "Boost switch input", 14 SWN (power) "Boost switch input", 15 PGOOD (hiz) "Boost output power good (1 : good, 0 : failure) (open drain)", 16 SWN (power) "Boost switch input", 17 SWN (power) "Boost switch input", 18 SKIPEN (in) "Enable/disable Power save mode (1: VBAT enabled, 0: GND disabled)", 19 VOUT (power) "Boost output", 20 VOUT (power) "Boost output", 21 FB (in) "Boost-voltage feedback of adjustable versions", 22 VBAT (power) "Supply pin", 23 LBI (in) "Low battery comparator input (comparator enabled with EN)", 24 ~{ENPB} (in) "Boost-enable input (pushbutton). (0/GND enabled. 1/VBAT disabled)", 25 EP "Exposed Thermal Pad"

## TPS61103RGERG4
designator U?
Boost Voltage Converter with 0.8 to 3.3 V Input, -40 to 85 degC, 24-Pin VQFN (RGE), Green (RoHS & no Sb/Br); Manufacturer: Texas Instruments; PartNumber: TPS61103RGERG4; Preset Vout(V): 3.3; Regulated Outputs(#): 2; SubFamily: Step-Up Regulator; Switching Frequency(Max)(kHz): 800; Synchronous Rectification: TRUE; Vin(Min)(V): 0.8; Vout2 Adj(Max)(V): 3.6; Vout2 Adj(Min)(V): 0.9; DatasheetVersion: SLVS411B; PackageVersion: revG, Jul-2011; PackageReference: RGE24-2450X2450TP; PackageDescription: 24-Pin Plastic Quad Flatpack No-Lead, 4 x 4 mm Body, 0.5 mm Pitch; Supplier 1: Digi-Key; Supplier Part Number 1: TPS61103RGERG4-ND; Supplier 2: Newark; Supplier Part Number 2: 54K1719; Supplier 3: Mouser; Supplier Part Number 3: 595-TPS61103RGERG4; Eco-Plan: Green (RoHS & no Sb/Br); Topology: Boost; Vin(Max)(V): 3.3; Mounting Technology: Surface Mount; Code_JEDEC: MO-220; ComponentLink1Description: Datasheet; ComponentLink1URL: http://www.ti.com/general/docs/lit/getliterature.tsp?genericPartNumber=TPS61103&fileType=pdf; ComponentLink2Description: Package Specification; ComponentLink2URL: http://www.ti.com/litv/pdf/mpqf124f
footprint RGE24-2450X2450TP (QFN, 24-Leads, Body 4x4mm, Pitch 0.5mm, Thermal Pad 2.45x2.45mm, TI Recommended)
pins: 1 NC "No connection", 2 EN (in) "Boost-enable input. (1/VBAT enabled, 0/GND disabled)", 3 ADEN (in) "Boost-enable input (pushbutton). (0/GND enabled. 1/VBAT disabled)", 4 LDOSENSE (in) "LDO feedback for voltage adjustment, must be connected to LDOOUT at fixed output voltage versions", 5 LDOEN (in) "LDO-enable input (1/VBAT enabled, 0/GND disabled)", 6 LDOIN (power) "LDO input", 7 LDOOUT (power) "LDO output", 8 GND (power) "Control/logic ground", 9 PGND (power) "Power ground", 10 PGND (power) "Power ground", 11 ~{LBO1} (hiz) "Low battery comparator output 1 (open drain)", 12 ~{LBO2} (hiz) "Low battery comparator output 2 (open drain)", 13 SWN (power) "Boost switch input", 14 SWN (power) "Boost switch input", 15 PGOOD (hiz) "Boost output power good (1 : good, 0 : failure) (open drain)", 16 SWN (power) "Boost switch input", 17 SWN (power) "Boost switch input", 18 SKIPEN (in) "Enable/disable Power save mode (1: VBAT enabled, 0: GND disabled)", 19 VOUT (power) "Boost output", 20 VOUT (power) "Boost output", 21 FB (in) "Boost-voltage feedback of adjustable versions", 22 VBAT (power) "Supply pin", 23 LBI (in) "Low battery comparator input (comparator enabled with EN)", 24 ~{ENPB} (in) "Boost-enable input (pushbutton). (0/GND enabled. 1/VBAT disabled)", 25 EP "Exposed Thermal Pad"

## TPS61106PW
designator U?
Boost Voltage Converter with 0.8 to 3.3 V Input, -40 to 85 degC, 20-Pin TSSOP (PW), Green (RoHS & no Sb/Br); Manufacturer: Texas Instruments; PartNumber: TPS61106PW; Preset Vout(V): 3.3; Regulated Outputs(#): 2; SubFamily: Step-Up Regulator; Switching Frequency(Max)(kHz): 800; Synchronous Rectification: TRUE; Vin(Min)(V): 0.8; Vout2(Max)(V): 1.5; DatasheetVersion: SLVS411B; PackageVersion: revG, Feb-2011; PackageReference: PW20; PackageDescription: 20-Pin Plastic Thin Small Outline Package 6.5 x 4.4 mm Body ,0.65 mm Pitch; Supplier 1: Digi-Key; Supplier Part Number 1: 296-13517-5-ND; Supplier 2: Newark; Supplier Part Number 2: 77C0679; Supplier 3: Mouser; Supplier Part Number 3: 595-TPS61106PW; Eco-Plan: Green (RoHS & no Sb/Br); Topology: Boost; Vin(Max)(V): 3.3; Vout2(Min)(V): 1.5; Mounting Technology: Surface Mount; Code_JEDEC: MO-153; ComponentLink1Description: Datasheet; ComponentLink1URL: http://www.ti.com/general/docs/lit/getliterature.tsp?genericPartNumber=TPS61106&fileType=pdf; ComponentLink2Description: Package Specification; ComponentLink2URL: http://www.ti.com.cn/cn/lit/ml/mpds362/mpds362.pdf
footprint PW20_N (TSOP, 20-Leads, Body 6.5x4.4mm, Pitch 0.65mm, IPC Medium Density)
footprint PW20_L (TSOP, 20-Leads, Body 6.5x4.4mm, Pitch 0.65mm, IPC High Density)
footprint PW20_M (TSOP, 20-Leads, Body 6.5x4.4mm, Pitch 0.65mm, IPC Low Density)
pins: 1 VBAT (power) "Supply pin", 2 LBI (in) "Low battery comparator input (comparator enabled with EN)", 3 ~{ENPB} (in) "Boost-enable input (pushbutton). (0/GND enabled. 1/VBAT disabled)", 4 EN (in) "Boost-enable input. (1/VBAT enabled, 0/GND disabled)", 5 ADEN (in) "Auto discharge enable (1/VBAT enabled, 0/GND disabled)", 6 LDOSENSE (in) "LDO feedback for voltage adjustment, must be connected to LDOOUT at fixed output voltage versions", 7 LDOEN (in) "LDO-enable input (1/VBAT enabled, 0/GND disabled)", 8 LDOIN (power) "LDO input", 9 LDOOUT (power) "LDO output", 10 GND (power) "Control/logic ground", 11 PGND (power) "Power ground", 12 ~{LBO1} (hiz) "Low battery comparator output 1 (open drain)", 13 ~{LBO2} (hiz) "Low battery comparator output 2 (open drain)", 14 SWN (power) "Boost switch input", 15 PGOOD (hiz) "Boost output power good (1 : good, 0 : failure) (open drain)", 16 SWN (power) "Boost switch input", 17 NC "No connection", 18 SKIPEN (in) "Enable/disable Power save mode (1: VBAT enabled, 0: GND disabled)", 19 VOUT (power) "Boost output", 20 FB "Boost-voltage feedback of adjustable versions"

## TPS61106PWG4
designator U?
Boost Voltage Converter with 0.8 to 3.3 V Input, -40 to 85 degC, 20-Pin TSSOP (PW), Green (RoHS & no Sb/Br); Manufacturer: Texas Instruments; PartNumber: TPS61106PWG4; Preset Vout(V): 3.3; Regulated Outputs(#): 2; SubFamily: Step-Up Regulator; Switching Frequency(Max)(kHz): 800; Synchronous Rectification: TRUE; Vin(Min)(V): 0.8; Vout2(Max)(V): 1.5; DatasheetVersion: SLVS411B; PackageVersion: revG, Feb-2011; PackageReference: PW20; PackageDescription: 20-Pin Plastic Thin Small Outline Package 6.5 x 4.4 mm Body ,0.65 mm Pitch; Supplier 1: Digi-Key; Supplier Part Number 1: TPS61106PWG4-ND; Supplier 2: Newark; Supplier Part Number 2: 80K3412; Supplier 3: Mouser; Supplier Part Number 3: 595-TPS61106PWG4; Eco-Plan: Green (RoHS & no Sb/Br); Topology: Boost; Vin(Max)(V): 3.3; Vout2(Min)(V): 1.5; Mounting Technology: Surface Mount; Code_JEDEC: MO-153; ComponentLink1Description: Datasheet; ComponentLink1URL: http://www.ti.com/general/docs/lit/getliterature.tsp?genericPartNumber=TPS61106&fileType=pdf; ComponentLink2Description: Package Specification; ComponentLink2URL: http://www.ti.com.cn/cn/lit/ml/mpds362/mpds362.pdf
footprint PW20_N (TSOP, 20-Leads, Body 6.5x4.4mm, Pitch 0.65mm, IPC Medium Density)
footprint PW20_L (TSOP, 20-Leads, Body 6.5x4.4mm, Pitch 0.65mm, IPC High Density)
footprint PW20_M (TSOP, 20-Leads, Body 6.5x4.4mm, Pitch 0.65mm, IPC Low Density)
pins: 1 VBAT (power) "Supply pin", 2 LBI (in) "Low battery comparator input (comparator enabled with EN)", 3 ~{ENPB} (in) "Boost-enable input (pushbutton). (0/GND enabled. 1/VBAT disabled)", 4 EN (in) "Boost-enable input. (1/VBAT enabled, 0/GND disabled)", 5 ADEN (in) "Auto discharge enable (1/VBAT enabled, 0/GND disabled)", 6 LDOSENSE (in) "LDO feedback for voltage adjustment, must be connected to LDOOUT at fixed output voltage versions", 7 LDOEN (in) "LDO-enable input (1/VBAT enabled, 0/GND disabled)", 8 LDOIN (power) "LDO input", 9 LDOOUT (power) "LDO output", 10 GND (power) "Control/logic ground", 11 PGND (power) "Power ground", 12 ~{LBO1} (hiz) "Low battery comparator output 1 (open drain)", 13 ~{LBO2} (hiz) "Low battery comparator output 2 (open drain)", 14 SWN (power) "Boost switch input", 15 PGOOD (hiz) "Boost output power good (1 : good, 0 : failure) (open drain)", 16 SWN (power) "Boost switch input", 17 NC "No connection", 18 SKIPEN (in) "Enable/disable Power save mode (1: VBAT enabled, 0: GND disabled)", 19 VOUT (power) "Boost output", 20 FB "Boost-voltage feedback of adjustable versions"